# Altium footprint library MC34063ADRJR.PcbLib: 1 footprints
Each footprint in its own frame and in the unit in brackets; x right, y up, seen from the top. Pads: shape width x height; smd on the part's side, far side on the other; paste and mask are expansions set on the pad; w line width, h text height; cw(c..) or ccw(c..) is an arc to the next point about the centre after c.
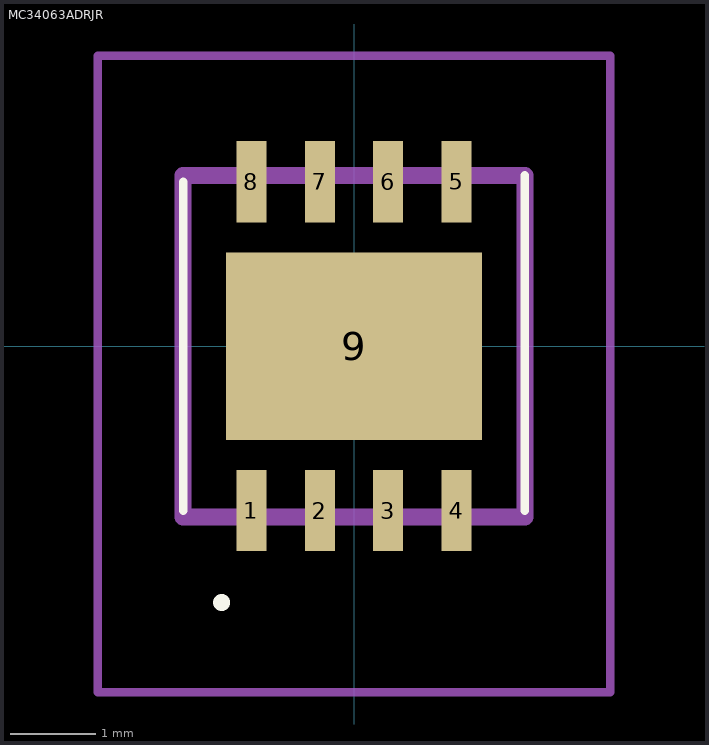
[diagram p0: the footprint, top view; thin cyan lines are the x and y axes]

## MC34063ADRJR [mm]
pads (9):
  rect 0.35x0.95 smd: 1(-1.2,-1.925) 2(-0.4,-1.925) 3(0.4,-1.925) 4(1.2,-1.925) 5(1.2,1.925) 6(0.4,1.925) 7(-0.4,1.925) 8(-1.2,1.925)
  rect 3x2.2 smd: 9(0,0)
Top Overlay:
  lines w0.1: -2,-1.925 -2,1.925 ; 2,-1.925 2,2 ; -1.6,-3 cw(c-1.55,-3) -1.5,-3 ; -1.6,-3 -1.6,-3 ; -1.6,-3 ccw(c-1.55,-3) -1.5,-3 ; -1.5,-3 -1.5,-3
Mechanical 15:
  lines w0.2: -2,-2 2,-2 2,2 -2,2 -2,-2
Mechanical 20:
  lines w0.1: -3,-4.05 3,-4.05 3,3.4 -3,3.4 -3,-4.05